# Altium schematic symbol library RGB_Lamp.SchLib: 2 symbols
Pins are listed as number, name and electrical type; pins without a type are passive.

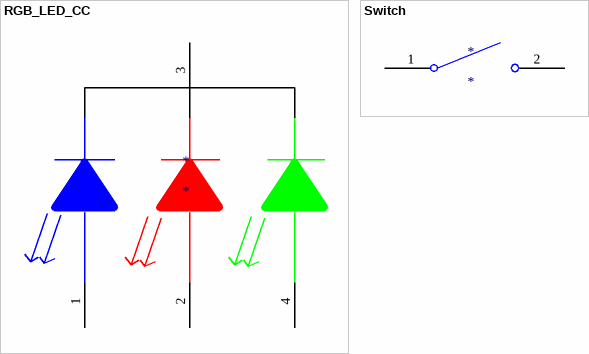
[diagram p0: symbols RGB_LED_CC to Switch]

## RGB_LED_CC
designator *
Common cathode RGB LED
pins: 1 B, 2 R, 3 (COM), 4 G

## Switch
designator *
2 terminal switch
pins: 1, 2